# EAGLE library part 2MM-DUAL-10-HEADER (library DAC)
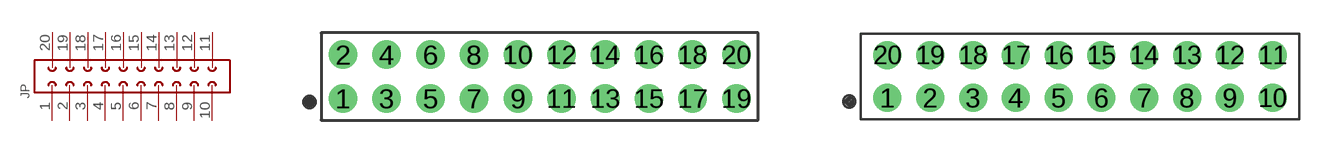
[diagram p9: symbol with the pads of 2MMDUALSTRAIGHTHEADER-10; footprints 2MMDUALSTRAIGHTHEADER-10, 2MMDUALSTRAIGHTRECPT-10]

Designator prefix JP

## 2MM-DUAL-10-HEADERMALE  [2MMDUALSTRAIGHTHEADER-10]
1  P$1
2  P$2
3  P$3
4  P$4
5  P$5
6  P$6
7  P$7
8  P$8
9  P$9
10  P$10
11  P$11
12  P$12
13  P$13
14  P$14
15  P$15
16  P$16
17  P$17
18  P$18
19  P$19
20  P$20

## 2MM-DUAL-10-HEADERFEMALE  [2MMDUALSTRAIGHTRECPT-10]
Pads as for 2MMDUALSTRAIGHTHEADER-10

## Footprint 2MMDUALSTRAIGHTHEADER-10 (pad centres in mm)
drill 0.8 round: 1 -9,-1; 2 -9,1; 3 -7,-1; 4 -7,1; 5 -5,-1; 6 -5,1; 7 -3,-1; 8 -3,1; 9 -1,-1; 10 -1,1; 11 1,-1; 12 1,1; 13 3,-1; 14 3,1; 15 5,-1; 16 5,1; 17 7,-1; 18 7,1; 19 9,-1; 20 9,1

## Footprint 2MMDUALSTRAIGHTRECPT-10 (pad centres in mm)
drill 0.8 round: 1 -9,-1; 2 -7,-1; 3 -5,-1; 4 -3,-1; 5 -1,-1; 6 1,-1; 7 3,-1; 8 5,-1; 9 7,-1; 10 9,-1; 11 9,1; 12 7,1; 13 5,1; 14 3,1; 15 1,1; 16 -1,1; 17 -3,1; 18 -5,1; 19 -7,1; 20 -9,1